# Altium integrated library ESP32-H2-DEVKITM-1-N4.IntLib: 1 symbol
Pins are listed as number, name and electrical type; pins without a type are passive.

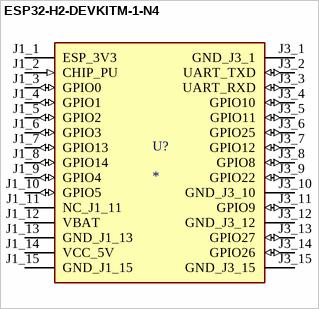
[diagram p0: symbol ESP32-H2-DEVKITM-1-N4]

## ESP32-H2-DEVKITM-1-N4
designator U?
ESP32-H ESP32-H2-MINI-1 Transceiver; 802.15.4 (ZigBeeÂ®), BluetoothÂ® Smart 4.x Low Energy (BLE) Evaluation Board; MF: Espressif Systems; MP: ESP32-H2-DEVKITM-1-N4; SnapEDA_Link: https://www.snapeda.com/parts/ESP32-H2-DEVKITM-1-N4/Espressif+Systems/view-part/?ref=snap; Package: None; Value: *; Check_prices: https://www.snapeda.com/parts/ESP32-H2-DEVKITM-1-N4/Espressif+Systems/view-part/?ref=eda
footprint MODULE_ESP32-H2-DEVKITM-1-N4
pins: J1_1 ESP_3V3 (power), J1_2 CHIP_PU (in), J1_3 GPIO0 (io), J1_4 GPIO1 (io), J1_5 GPIO2 (io), J1_6 GPIO3 (io), J1_7 GPIO13 (io), J1_8 GPIO14 (io), J1_9 GPIO4 (io), J1_10 GPIO5 (io), J1_11 NC_J1_11, J1_12 VBAT (power), J1_13 GND_J1_13 (power), J1_14 VCC_5V (power), J1_15 GND_J1_15 (power), J3_1 GND_J3_1 (power), J3_2 UART_TXD (io), J3_3 UART_RXD (io), J3_4 GPIO10 (io), J3_5 GPIO11 (io), J3_6 GPIO25 (io), J3_7 GPIO12 (io), J3_8 GPIO8 (io), J3_9 GPIO22 (io), J3_10 GND_J3_10 (power), J3_11 GPIO9 (io), J3_12 GND_J3_12 (power), J3_13 GPIO27 (io), J3_14 GPIO26 (io), J3_15 GND_J3_15 (power)